# EAGLE library part TPS2044 (library personal)
TPS2044B Current-limiting power-distribution switch SOIC 16 package
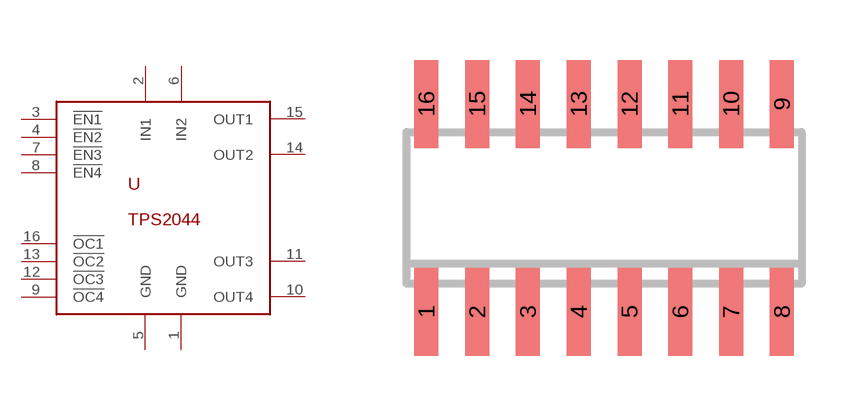
[diagram p11: symbol with the pads of SO16; footprint SO16]

Designator prefix -

## TPS2044  [SO16]
1  GND
2  IN1
3  !EN1
4  !EN2
5  GND
6  IN2
7  !EN3
8  !EN4
9  !OC4
10  OUT4
11  OUT3
12  !OC3
13  !OC2
14  OUT2
15  OUT1
16  !OC1

## Footprint SO16 (pad centres in mm)
SMALL OUTLINE INTEGRATED CIRCUIT body 3.9 mm/JEDEC MS-012AC
smd 0.6 x 2.2: 1 -4.445,-2.6; 2 -3.175,-2.6; 3 -1.905,-2.6; 4 -0.635,-2.6; 5 0.635,-2.6; 6 1.905,-2.6; 7 3.175,-2.6; 8 4.445,-2.6; 9 4.445,2.6; 10 3.175,2.6; 11 1.905,2.6; 12 0.635,2.6; 13 -0.635,2.6; 14 -1.905,2.6; 15 -3.175,2.6; 16 -4.445,2.6